# Altium schematic symbol library Connector-RF.SchLib: 3 symbols
Pins are listed as number, name and electrical type; pins without a type are passive.

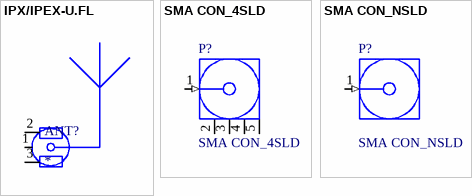
[diagram p0: symbols IPX/IPEX-U.FL to SMA CON_NSLD]

## IPX/IPEX-U.FL
designator ANT?
footprint IPX/IPEX-U.FL_SMT
pins: 1, 2, 3

## SMA CON_4SLD
designator P?
SMA CON; PCB_Layout: Complies with manufacturer's recommendation.; DrillSize: Corresponds to nominal value.; Published: 15-Jul-2004; LatestRevisionDate: 15-Jul-2004; LatestRevisionNote: Component Replaced.; DatasheetDocument: 30-May-2003; PackageDocument: 04-Jul-1999; PackageReference: 919-119J-51AX; Publisher: Altium Limited; ComponentLink1Description: Manufacturer Link; ComponentLink1URL: http://www.amphenolrf.com/
footprint SMA_KE
footprint SMA_KWE
footprint SMA_KHD
pins: 1 Signal (in) "Signal Pin", 2 GND (power), 3 GND (power), 4 GND (power), 5 GND (power)

## SMA CON_NSLD
designator P?
SMA CON; PCB_Layout: Complies with manufacturer's recommendation.; DrillSize: Corresponds to nominal value.; Published: 15-Jul-2004; LatestRevisionDate: 15-Jul-2004; LatestRevisionNote: Component Replaced.; DatasheetDocument: 30-May-2003; PackageDocument: 04-Jul-1999; PackageReference: 919-119J-51AX; Publisher: Altium Limited; ComponentLink1Description: Manufacturer Link; ComponentLink1URL: http://www.amphenolrf.com/
footprint SMA_KFD_NSLD_2PHL
footprint SMA_KFD_NSLD_4PHL
pins: 1 Signal (in) "Signal Pin"